# EAGLE library part MCP3424 (library 000001)
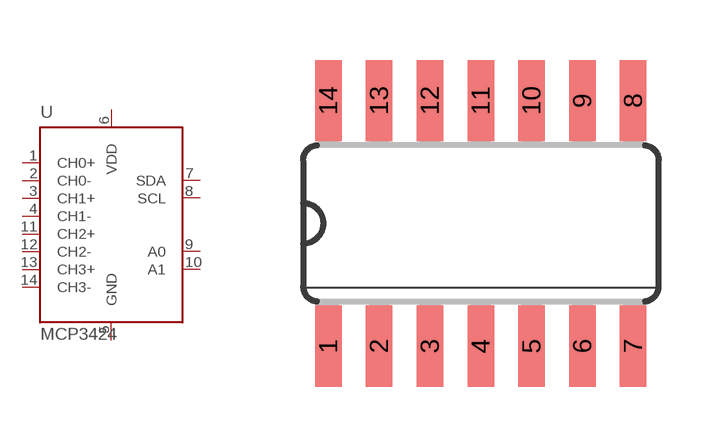
[diagram p113: symbol with the pads of SO14; footprint SO14]

Designator prefix -

## MCP3424  [SO14]
1  CH0+  in
2  CH0-  in
3  CH1+  in
4  CH1-  in
5  GND  pwr
6  VDD  in
7  SDA  in
8  SCL  hiz
9  A0  hiz
10  A1  hiz
11  CH2+  in
12  CH2-  in
13  CH3+  in
14  CH3-  in

## Footprint SO14 (pad centres in mm)
Small Outline package 150 mil
smd 0.66 x 2.032: 1 -3.81,-3.073; 2 -2.54,-3.073; 3 -1.27,-3.073; 4 0,-3.073; 5 1.27,-3.073; 6 2.54,-3.073; 7 3.81,-3.073; 8 3.81,3.073; 9 2.54,3.073; 10 1.27,3.073; 11 0,3.073; 12 -1.27,3.073; 13 -2.54,3.073; 14 -3.81,3.073